# Altium footprint library ics.PcbLib: 20 footprints (part 1 of 2)
Each footprint in its own frame and in the unit in brackets; x right, y up, seen from the top. Pads: shape width x height; smd on the part's side, far side on the other; paste and mask are expansions set on the pad; w line width, h text height; cw(c..) or ccw(c..) is an arc to the next point about the centre after c.
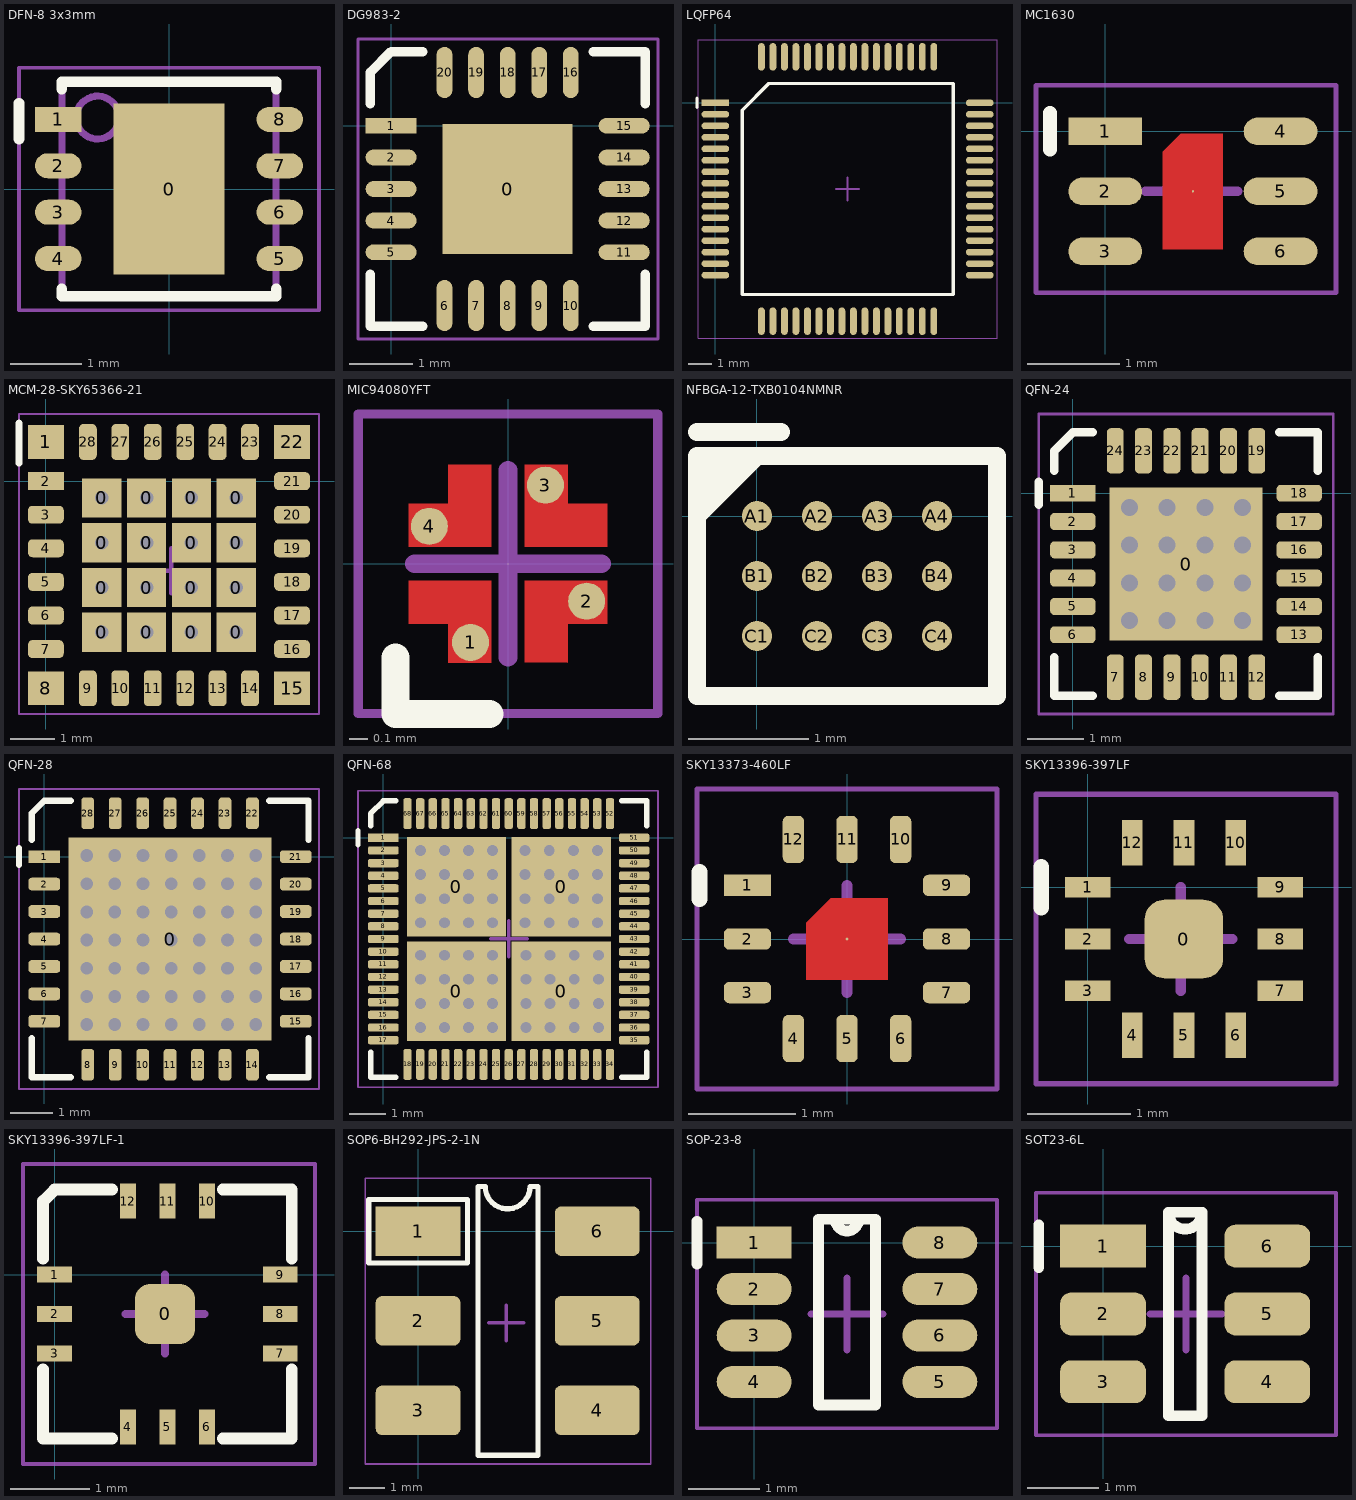
[diagram p0: the footprints below, top view; thin cyan lines are the x and y axes]

## DFN-8 3x3mm [mm] "DFN, 8-Leads, Body 3.00x3.00mm, Pitch 0.65mm, Thermal Pad 1.50x2.0mm, IPC Medium Density"
height 1
pads (9):
  rect 1.55x2.4 smd: 0(0,0)
  rect 0.65x0.35 smd: 1(-1.55,0.975)
  oval 0.65x0.35 smd: 2(-1.55,0.325) 3(-1.55,-0.325) 4(-1.55,-0.975) 5(1.55,-0.975) 6(1.55,-0.325) 7(1.55,0.325) 8(1.55,0.975)
Top Overlay:
  lines w0.15: -2.1,0.7 -2.1,1.2 ; -1.5,-1.4 -1.5,-1.5 1.5,-1.5 1.5,-1.4 ; -1.5,1.4 -1.5,1.5 1.5,1.5 1.5,1.4
Mechanical 13:
  circle w0.1: c-1,1 r0.3
  lines w0.1: -1.5,-1.5 1.5,-1.5 1.5,1.5 -1.5,1.5 -1.5,-1.5
Mechanical 15:
  lines w0.05: -2.1,-1.7 -2.1,1.7 2.1,1.7 2.1,-1.7 -2.1,-1.7
  lines w0.1: -0.5,0 0.5,0 ; 0,-0.5 0,0.5
3D body "Microchip - DFN-8 3x3MM.step": height 1.05, standoff 0, extent -1.5,-1.5 1.5,1.5

## DG983-2 [mm] "Mini-Circuits DG983-2"
pads (21):
  rect 2.06x2.06 smd: 0(1.845,-1)
  rect 0.81x0.25 smd: 1(0,0)
  oval 0.81x0.25 smd: 2(0,-0.5) 3(0,-1) 4(0,-1.5) 5(0,-2) 11(3.69,-2) 12(3.69,-1.5) 13(3.69,-1) 14(3.69,-0.5) 15(3.69,0)
  oval 0.25x0.81 smd: 6(0.845,-2.845) 7(1.345,-2.845) 8(1.845,-2.845) 9(2.345,-2.845) 10(2.845,-2.845) 16(2.845,0.845) 17(2.345,0.845) 18(1.845,0.845) 19(1.345,0.845) 20(0.845,0.845)
Top Overlay:
  lines w0.15: -0.33,-2.35 -0.33,-3.175 0.5,-3.175 ; -0.33,0.35 -0.33,0.845 0,1.175 0.5,1.175 ; 3.2,-3.175 4.02,-3.175 4.02,-2.35 ; 3.2,1.175 4.02,1.175 4.02,0.35
Mechanical 15:
  lines w0.05: -0.525,-3.375 -0.525,1.375 4.225,1.375 4.225,-3.375 -0.525,-3.375
  lines w0.1: 1.35,-1.025 2.35,-1.025 ; 1.85,-1.525 1.85,-0.525
3D body "DG983-2.stp": height 0.85, standoff 0, extent -0.205,-3.05 3.895,1.05

## LQFP64 [mm]
pads (64):
  rect 1.2x0.3 smd: 1(0,0)
  oval 1.2x0.3 smd: 2(0,-0.5) 3(0,-1) 4(0,-1.5) 5(0,-2) 6(0,-2.5) 7(0,-3) 8(0,-3.5) 9(0,-4) 10(0,-4.5) 11(0,-5) 12(0,-5.5) 13(0,-6) 14(0,-6.5) 15(0,-7) 16(0,-7.5) 33(11.5,-7.5) 34(11.5,-7) 35(11.5,-6.5) 36(11.5,-6) 37(11.5,-5.5) 38(11.5,-5) 39(11.5,-4.5) 40(11.5,-4) 41(11.5,-3.5) 42(11.5,-3) 43(11.5,-2.5) 44(11.5,-2) 45(11.5,-1.5) 46(11.5,-1) 47(11.5,-0.5) 48(11.5,0)
  oval 0.3x1.2 smd: 17(2,-9.5) 18(2.5,-9.5) 19(3,-9.5) 20(3.5,-9.5) 21(4,-9.5) 22(4.5,-9.5) 23(5,-9.5) 24(5.5,-9.5) 25(6,-9.5) 26(6.5,-9.5) 27(7,-9.5) 28(7.5,-9.5) 29(8,-9.5) 30(8.5,-9.5) 31(9,-9.5) 32(9.5,-9.5) 49(9.5,2) 50(9,2) 51(8.5,2) 52(8,2) 53(7.5,2) 54(7,2) 55(6.5,2) 56(6,2) 57(5.5,2) 58(5,2) 59(4.5,2) 60(4,2) 61(3.5,2) 62(3,2) 63(2.5,2) 64(2,2)
Top Overlay:
  lines w0.15: -0.8,-0.2 -0.8,0.2 ; 1.16,-8.34 1.16,-0.32 2.32,0.84 10.34,0.84 10.34,-8.34 1.16,-8.34
Mechanical 15:
  lines w0.05: -0.75,-10.25 -0.75,2.75 12.25,2.75 12.25,-10.25 -0.75,-10.25
  lines w0.1: 5.25,-3.75 6.25,-3.75 ; 5.75,-4.25 5.75,-3.25
3D body "LQFP64.step": height 1.56, standoff 0, extent -0.25,-9.75 11.75,2.25

## MC1630 [mm] "Mini-Circuits MC1630"
pads (7):
  round 0.025 smd: 0(0.95,-0.65)
  rect 0.8x0.3 smd: 1(0,0)
  oval 0.8x0.3 smd: 2(0,-0.65) 3(0,-1.3) 4(1.9,0) 5(1.9,-0.65) 6(1.9,-1.3)
Top Layer:
  region: 1.275,-1.275 0.625,-1.275 0.625,-0.22 0.82,-0.025 1.275,-0.025
Top Overlay:
  lines w0.15: -0.6,-0.2 -0.6,0.2
Mechanical 15:
  lines w0.05: -0.75,-1.75 -0.75,0.5 2.5,0.5 2.5,-1.75 -0.75,-1.75
  lines w0.1: 0.436,-0.648 1.436,-0.648 ; 0.936,-1.148 0.936,-0.148
3D body "MC1630.step": height 0.85, standoff 0, extent -0.06,-1.65 1.96,0.35

## MCM-28-SKY65366-21 [mm]
pads (44):
  rect 0.875x0.875 smd: 0(1.25,-3.375) 0(1.25,-2.375) 0(1.25,-1.375) 0(1.25,-0.375) 0(2.25,-3.375) 0(2.25,-2.375) 0(2.25,-1.375) 0(2.25,-0.375) 0(3.25,-3.375) 0(3.25,-2.375) 0(3.25,-1.375) 0(3.25,-0.375) 0(4.25,-3.375) 0(4.25,-2.375) 0(4.25,-1.375) 0(4.25,-0.375)
  rect 0.8x0.75 smd: 1(0,0.875) 8(0,-4.625) 15(5.499,-4.625) 22(5.499,0.875)
  rect 0.8x0.4 smd: 2(0,0)
  rrect50% 0.8x0.4 smd: 3(0,-0.75) 4(0,-1.5) 5(0,-2.25) 6(0,-3) 7(0,-3.75) 16(5.499,-3.75) 17(5.499,-3) 18(5.499,-2.25) 19(5.499,-1.5) 20(5.499,-0.75) 21(5.499,0)
  rrect50% 0.4x0.8 smd: 9(0.937,-4.625) 10(1.662,-4.625) 11(2.387,-4.625) 12(3.112,-4.625) 13(3.837,-4.625) 14(4.562,-4.625) 23(4.562,0.875) 24(3.837,0.875) 25(3.112,0.875) 26(2.387,0.875) 27(1.662,0.875) 28(0.937,0.875)
via 1.25,-0.375 diameter 0.7 hole 0.3
via 2.25,-0.375 diameter 0.7 hole 0.3
via 3.25,-0.375 diameter 0.7 hole 0.3
via 4.25,-0.375 diameter 0.7 hole 0.3
via 1.25,-1.375 diameter 0.7 hole 0.3
via 2.25,-1.375 diameter 0.7 hole 0.3
via 3.25,-1.375 diameter 0.7 hole 0.3
via 4.25,-1.375 diameter 0.7 hole 0.3
via 1.25,-2.375 diameter 0.7 hole 0.3
via 2.25,-2.375 diameter 0.7 hole 0.3
via 3.25,-2.375 diameter 0.7 hole 0.3
via 4.25,-2.375 diameter 0.7 hole 0.3
via 1.25,-3.375 diameter 0.7 hole 0.3
via 2.25,-3.375 diameter 0.7 hole 0.3
via 3.25,-3.375 diameter 0.7 hole 0.3
via 4.25,-3.375 diameter 0.7 hole 0.3
Top Overlay:
  lines w0.15: -0.6,0.4 -0.6,1.3
Top Solder:
  rectangle: -0.4,-5.025 5.9,1.275
Mechanical 15:
  lines w0.05: -0.6,-5.2 6.1,-5.2 6.1,1.5 -0.6,1.5 -0.6,-5.2
  lines w0.1: 2.3,-2 3.3,-2 ; 2.8,-2.5 2.8,-1.5
3D body "SKY65366-21.STEP": height 1.05, standoff 0, extent -0.234,-4.875 5.766,1.125

## MIC94080YFT [mm] "MIC94080YFT"
pads (4):
  round 0.198 smd paste-1000 mask+0: 1(-0.2,-0.42) 2(0.42,-0.2) 3(0.2,0.42) 4(-0.42,0.2)
Top Layer:
  region: -0.53,-0.09 -0.09,-0.09 -0.09,-0.53 -0.32,-0.53 -0.32,-0.32 -0.53,-0.32
  region: 0.53,-0.09 0.09,-0.09 0.09,-0.525 0.32,-0.53 0.32,-0.32 0.53,-0.32
  region: 0.53,0.09 0.09,0.09 0.09,0.53 0.32,0.53 0.32,0.32 0.53,0.32
  region: -0.53,0.09 -0.09,0.09 -0.09,0.53 -0.32,0.53 -0.32,0.32 -0.53,0.32
Top Overlay:
  lines w0.15: -0.601,-0.5 -0.601,-0.802 -0.1,-0.802
Top Paste:
  region: -0.53,-0.09 -0.09,-0.09 -0.09,-0.49 -0.32,-0.49 -0.32,-0.32 -0.53,-0.32
  region: 0.53,-0.09 0.09,-0.09 0.09,-0.49 0.32,-0.49 0.32,-0.32 0.53,-0.32
  region: 0.53,0.09 0.09,0.09 0.09,0.49 0.32,0.49 0.32,0.32 0.53,0.32
  region: -0.53,0.09 -0.09,0.09 -0.09,0.49 -0.32,0.49 -0.32,0.32 -0.53,0.32
Mechanical 15:
  lines w0.05: -0.8,-0.8 -0.8,0.8 0.8,0.8 0.8,-0.8 -0.8,-0.8
  lines w0.1: -0.5,0 0.5,0 ; 0,-0.5 0,0.5
3D body "IC_Microchip_Technology_MIC94080YFT-TR_eec.STEP": height 0.25, standoff 0, extent -0.63,-0.63 0.63,0.63

## NFBGA-12-TXB0104NMNR [mm]
pads (12):
  round 0.25 smd: A1(0,0) A2(0.5,0) A3(1,0) A4(1.5,0) B1(0,-0.5) B2(0.5,-0.5) B3(1,-0.5) B4(1.5,-0.5) C1(0,-1) C2(0.5,-1) C3(1,-1) C4(1.5,-1)
Top Overlay:
  lines w0.15: -0.5,0 0,0.5 ; -0.5,0.2 -0.2,0.5 -0.475,0.5 -0.35,0.375 ; -0.5,0.475 -0.5,0.5 ; -0.5,0.7 0.2,0.7 ; -0.5,0.5 2,0.5 2,-1.5 -0.5,-1.5 -0.5,0.5
3D body "TXB0104NMNR_STEP.STEP": height 0.96, standoff 0, extent -0.5,-1.5 2,0.5

## QFN-24 [mm]
pads (25):
  rect 2.7x2.7 smd: 0(2,-1.25)
  rect 0.8x0.3 smd: 1(0,0)
  rrect50% 0.8x0.3 smd: 2(0,-0.5) 3(0,-1) 4(0,-1.5) 5(0,-2) 6(0,-2.5) 13(4,-2.5) 14(4,-2) 15(4,-1.5) 16(4,-1) 17(4,-0.5) 18(4,0)
  rrect50% 0.3x0.8 smd: 7(0.75,-3.25) 8(1.25,-3.25) 9(1.75,-3.25) 10(2.25,-3.25) 11(2.75,-3.25) 12(3.25,-3.25) 19(3.25,0.75) 20(2.75,0.75) 21(2.25,0.75) 22(1.75,0.75) 23(1.25,0.75) 24(0.75,0.75)
via 2.335,-0.915 diameter 0.65 hole 0.3
via 3,-0.915 diameter 0.65 hole 0.3
via 1,-0.915 diameter 0.65 hole 0.3
via 1.665,-0.915 diameter 0.65 hole 0.3
via 2.335,-1.585 diameter 0.65 hole 0.3
via 3,-1.585 diameter 0.65 hole 0.3
via 1,-1.585 diameter 0.65 hole 0.3
via 1.665,-1.585 diameter 0.65 hole 0.3
via 2.335,-2.25 diameter 0.65 hole 0.3
via 3,-2.25 diameter 0.65 hole 0.3
via 1,-2.25 diameter 0.65 hole 0.3
via 1.665,-2.25 diameter 0.65 hole 0.3
via 2.335,-0.25 diameter 0.65 hole 0.3
via 3,-0.25 diameter 0.65 hole 0.3
via 1,-0.25 diameter 0.65 hole 0.3
via 1.665,-0.25 diameter 0.65 hole 0.3
Top Overlay:
  lines w0.15: -0.6,-0.2 -0.6,0.2 ; -0.325,-2.9 -0.325,-3.575 0.35,-3.575 ; -0.325,0.4 -0.325,0.75 0,1.075 0.35,1.075 ; 3.65,-3.575 4.325,-3.575 4.325,-2.9 ; 3.65,1.075 4.325,1.075 4.325,0.4
Mechanical 15:
  lines w0.05: -0.6,-3.9 -0.6,1.4 4.6,1.4 4.6,-3.9 -0.6,-3.9
  lines w0.1: 1.5,-1.3 2.5,-1.3 ; 2,-1.8 2,-0.8
3D body "QFN_0IMLTRT_SEM.step": height 0.99, standoff 0, extent -0.045,-3.295 4.045,0.795

## QFN-28 [mm]
pads (29):
  rect 4.8x4.8 smd: 0(2.975,-1.95)
  rect 0.75x0.3 smd: 1(0,0)
  rrect50% 0.75x0.3 smd: 2(0,-0.65) 3(0,-1.3) 4(0,-1.95) 5(0,-2.6) 6(0,-3.25) 7(0,-3.9) 15(5.95,-3.9) 16(5.95,-3.25) 17(5.95,-2.6) 18(5.95,-1.95) 19(5.95,-1.3) 20(5.95,-0.65) 21(5.95,0)
  rrect50% 0.3x0.75 smd: 8(1.025,-4.925) 9(1.675,-4.925) 10(2.325,-4.925) 11(2.975,-4.925) 12(3.625,-4.925) 13(4.275,-4.925) 14(4.925,-4.925) 22(4.925,1.025) 23(4.275,1.025) 24(3.625,1.025) 25(2.975,1.025) 26(2.325,1.025) 27(1.675,1.025) 28(1.025,1.025)
via 2.335,-0.64 diameter 0.65 hole 0.3
via 1,-0.64 diameter 0.65 hole 0.3
via 1.665,-0.64 diameter 0.65 hole 0.3
via 2.335,-1.31 diameter 0.65 hole 0.3
via 3,-1.31 diameter 0.65 hole 0.3
via 1,-1.31 diameter 0.65 hole 0.3
via 1.665,-1.31 diameter 0.65 hole 0.3
via 2.335,-1.975 diameter 0.65 hole 0.3
via 3,-1.975 diameter 0.65 hole 0.3
via 1,-1.975 diameter 0.65 hole 0.3
via 1.665,-1.975 diameter 0.65 hole 0.3
via 2.335,0.025 diameter 0.65 hole 0.3
via 1,0.025 diameter 0.65 hole 0.3
via 1.665,0.025 diameter 0.65 hole 0.3
via 4.335,-0.64 diameter 0.65 hole 0.3
via 5,-0.64 diameter 0.65 hole 0.3
via 3,-0.64 diameter 0.65 hole 0.3
via 3.665,-0.64 diameter 0.65 hole 0.3
via 4.335,-1.31 diameter 0.65 hole 0.3
via 5,-1.31 diameter 0.65 hole 0.3
via 3.665,-1.31 diameter 0.65 hole 0.3
via 4.335,-1.975 diameter 0.65 hole 0.3
via 5,-1.975 diameter 0.65 hole 0.3
via 3.665,-1.975 diameter 0.65 hole 0.3
via 4.335,0.025 diameter 0.65 hole 0.3
via 5,0.025 diameter 0.65 hole 0.3
via 3,0.025 diameter 0.65 hole 0.3
via 3.665,0.025 diameter 0.65 hole 0.3
via 2.335,-2.64 diameter 0.65 hole 0.3
via 3,-2.64 diameter 0.65 hole 0.3
via 1,-2.64 diameter 0.65 hole 0.3
via 1.665,-2.64 diameter 0.65 hole 0.3
via 2.335,-3.31 diameter 0.65 hole 0.3
via 3,-3.31 diameter 0.65 hole 0.3
via 1,-3.31 diameter 0.65 hole 0.3
via 1.665,-3.31 diameter 0.65 hole 0.3
via 2.335,-3.975 diameter 0.65 hole 0.3
via 3,-3.975 diameter 0.65 hole 0.3
via 1,-3.975 diameter 0.65 hole 0.3
via 1.665,-3.975 diameter 0.65 hole 0.3
via 4.335,-2.64 diameter 0.65 hole 0.3
via 5,-2.64 diameter 0.65 hole 0.3
via 3.665,-2.64 diameter 0.65 hole 0.3
via 4.335,-3.31 diameter 0.65 hole 0.3
via 5,-3.31 diameter 0.65 hole 0.3
via 3.665,-3.31 diameter 0.65 hole 0.3
via 4.335,-3.975 diameter 0.65 hole 0.3
via 5,-3.975 diameter 0.65 hole 0.3
via 3.665,-3.975 diameter 0.65 hole 0.3
Top Overlay:
  lines w0.15: -0.6,-0.2 -0.6,0.2 ; -0.3,-4.3 -0.3,-5.225 0.625,-5.225 ; -0.3,0.4 -0.3,1.025 0,1.325 0.625,1.325 ; 5.325,-5.225 6.25,-5.225 6.25,-4.3 ; 5.325,1.325 6.25,1.325 6.25,0.4
Mechanical 15:
  lines w0.05: -0.6,-5.5 6.5,-5.5 6.5,1.6 -0.6,1.6 -0.6,-5.5
  lines w0.1: 2.5,-2 3.5,-2 ; 3,-2.5 3,-1.5
3D body "QFN28_0_65.step": height 0.88, standoff -0.02, extent 0,-4.975 6,1.025

## QFN-68 [mm]
pads (72):
  rect 2.75x2.75 smd: 0(2.025,-4.25) 0(2.025,-1.35) 0(4.925,-4.25) 0(4.925,-1.35)
  rect 0.85x0.23 smd: 1(0,0)
  rrect50% 0.85x0.23 smd: 2(0,-0.35) 3(0,-0.7) 4(0,-1.05) 5(0,-1.4) 6(0,-1.75) 7(0,-2.1) 8(0,-2.45) 9(0,-2.8) 10(0,-3.15) 11(0,-3.5) 12(0,-3.85) 13(0,-4.2) 14(0,-4.55) 15(0,-4.9) 16(0,-5.25) 17(0,-5.6) 35(6.94,-5.6) 36(6.94,-5.25) 37(6.94,-4.9) 38(6.94,-4.55) 39(6.94,-4.2) 40(6.94,-3.85) 41(6.94,-3.5) 42(6.94,-3.15) 43(6.94,-2.8) 44(6.94,-2.45) 45(6.94,-2.1) 46(6.94,-1.75) 47(6.94,-1.4) 48(6.94,-1.05) 49(6.94,-0.7) 50(6.94,-0.35) 51(6.94,0)
  rrect50% 0.23x0.85 smd: 18(0.67,-6.27) 19(1.02,-6.27) 20(1.37,-6.27) 21(1.72,-6.27) 22(2.07,-6.27) 23(2.42,-6.27) 24(2.77,-6.27) 25(3.12,-6.27) 26(3.47,-6.27) 27(3.82,-6.27) 28(4.17,-6.27) 29(4.52,-6.27) 30(4.87,-6.27) 31(5.22,-6.27) 32(5.57,-6.27) 33(5.92,-6.27) 34(6.27,-6.27) 52(6.27,0.67) 53(5.92,0.67) 54(5.57,0.67) 55(5.22,0.67) 56(4.87,0.67) 57(4.52,0.67) 58(4.17,0.67) 59(3.82,0.67) 60(3.47,0.67) 61(3.12,0.67) 62(2.77,0.67) 63(2.42,0.67) 64(2.07,0.67) 65(1.72,0.67) 66(1.37,0.67) 67(1.02,0.67) 68(0.67,0.67)
via 1.69,-0.35 diameter 0.65 hole 0.3
via 1.025,-0.35 diameter 0.65 hole 0.3
via 3.025,-0.35 diameter 0.65 hole 0.3
via 2.36,-0.35 diameter 0.65 hole 0.3
via 1.69,-2.35 diameter 0.65 hole 0.3
via 1.025,-2.35 diameter 0.65 hole 0.3
via 3.025,-2.35 diameter 0.65 hole 0.3
via 2.36,-2.35 diameter 0.65 hole 0.3
via 1.69,-1.685 diameter 0.65 hole 0.3
via 1.025,-1.685 diameter 0.65 hole 0.3
via 3.025,-1.685 diameter 0.65 hole 0.3
via 2.36,-1.685 diameter 0.65 hole 0.3
via 1.69,-1.015 diameter 0.65 hole 0.3
via 1.025,-1.015 diameter 0.65 hole 0.3
via 3.025,-1.015 diameter 0.65 hole 0.3
via 2.36,-1.015 diameter 0.65 hole 0.3
via 4.59,-0.35 diameter 0.65 hole 0.3
via 3.925,-0.35 diameter 0.65 hole 0.3
via 5.925,-0.35 diameter 0.65 hole 0.3
via 5.26,-0.35 diameter 0.65 hole 0.3
via 4.59,-2.35 diameter 0.65 hole 0.3
via 3.925,-2.35 diameter 0.65 hole 0.3
via 5.925,-2.35 diameter 0.65 hole 0.3
via 5.26,-2.35 diameter 0.65 hole 0.3
via 4.59,-1.685 diameter 0.65 hole 0.3
via 3.925,-1.685 diameter 0.65 hole 0.3
via 5.925,-1.685 diameter 0.65 hole 0.3
via 5.26,-1.685 diameter 0.65 hole 0.3
via 4.59,-1.015 diameter 0.65 hole 0.3
via 3.925,-1.015 diameter 0.65 hole 0.3
via 5.925,-1.015 diameter 0.65 hole 0.3
via 5.26,-1.015 diameter 0.65 hole 0.3
via 1.69,-3.25 diameter 0.65 hole 0.3
via 1.025,-3.25 diameter 0.65 hole 0.3
via 3.025,-3.25 diameter 0.65 hole 0.3
via 2.36,-3.25 diameter 0.65 hole 0.3
via 1.69,-5.25 diameter 0.65 hole 0.3
via 1.025,-5.25 diameter 0.65 hole 0.3
via 3.025,-5.25 diameter 0.65 hole 0.3
via 2.36,-5.25 diameter 0.65 hole 0.3
via 1.69,-4.585 diameter 0.65 hole 0.3
via 1.025,-4.585 diameter 0.65 hole 0.3
via 3.025,-4.585 diameter 0.65 hole 0.3
via 2.36,-4.585 diameter 0.65 hole 0.3
via 1.69,-3.915 diameter 0.65 hole 0.3
via 1.025,-3.915 diameter 0.65 hole 0.3
via 3.025,-3.915 diameter 0.65 hole 0.3
via 2.36,-3.915 diameter 0.65 hole 0.3
via 4.615,-3.25 diameter 0.65 hole 0.3
via 3.95,-3.25 diameter 0.65 hole 0.3
via 5.95,-3.25 diameter 0.65 hole 0.3
via 5.285,-3.25 diameter 0.65 hole 0.3
via 4.615,-5.25 diameter 0.65 hole 0.3
via 3.95,-5.25 diameter 0.65 hole 0.3
via 5.95,-5.25 diameter 0.65 hole 0.3
via 5.285,-5.25 diameter 0.65 hole 0.3
via 4.615,-4.585 diameter 0.65 hole 0.3
via 3.95,-4.585 diameter 0.65 hole 0.3
via 5.95,-4.585 diameter 0.65 hole 0.3
via 5.285,-4.585 diameter 0.65 hole 0.3
via 4.615,-3.915 diameter 0.65 hole 0.3
via 3.95,-3.915 diameter 0.65 hole 0.3
via 5.95,-3.915 diameter 0.65 hole 0.3
via 5.285,-3.915 diameter 0.65 hole 0.3
Top Overlay:
  lines w0.15: -0.7,-0.2 -0.7,0.2 ; -0.35,-5.93 -0.35,-6.62 0.34,-6.62 ; -0.35,0.33 -0.35,0.67 0,1.02 0.34,1.02 ; 6.6,-6.62 7.29,-6.62 7.29,-5.93 ; 6.6,1.02 7.29,1.02 7.29,0.33
Top Solder:
  region: 6.47,-6.288 6.47,0.7 0.5,0.7 0.5,-6.288
  rectangle: 0,-5.8 7,0.2
Mechanical 15:
  lines w0.05: -0.7,-6.9 7.6,-6.9 7.6,1.3 -0.7,1.3 -0.7,-6.9
  lines w0.1: 2.976,-2.791 3.976,-2.791 ; 3.476,-3.291 3.476,-2.291
3D body "QFN68_7X7_SEM.step": height 0.81, standoff 0, extent -0.03,-6.305 6.98,0.705

## SKY13373-460LF [mm] "SKY13373-460LF"
pads (13):
  round 0.025 smd paste+0: 0(0,0)
  rect 0.44x0.2 smd paste+0: 1(-0.93,0.5)
  rrect50% 0.44x0.2 smd paste+0: 2(-0.93,0) 3(-0.93,-0.5) 7(0.93,-0.5) 8(0.93,0) 9(0.93,0.5)
  rrect50% 0.2x0.44 smd paste+0: 4(-0.5,-0.93) 5(0,-0.93) 6(0.5,-0.93) 10(0.5,0.93) 11(0,0.93) 12(-0.5,0.93)
Top Layer:
  region: 0.38,-0.38 -0.38,-0.38 -0.38,0.152 -0.152,0.38 0.38,0.38
Top Overlay:
  lines w0.15: -1.375,0.375 -1.375,0.625
Mechanical 15:
  lines w0.05: -1.4,-1.4 1.4,-1.4 1.4,1.4 -1.4,1.4 -1.4,-1.4
  lines w0.1: -0.5,0 0.5,0 ; 0,-0.5 0,0.5
3D body "SKY13373-460LF.STEP": height 0.55, standoff 0, extent -1,-1 1,1

## SKY13396-397LF [mm]
pads (13):
  rrect50% 0.76x0.76 smd: 0(0.93,-0.5)
  rect 0.44x0.2 smd: 1(0,0) 2(0,-0.5) 3(0,-1) 7(1.86,-1) 8(1.86,-0.5) 9(1.86,0)
  rect 0.2x0.44 smd: 4(0.43,-1.43) 5(0.93,-1.43) 6(1.43,-1.43) 10(1.43,0.43) 11(0.93,0.43) 12(0.43,0.43)
Top Overlay:
  lines w0.15: -0.45,-0.2 -0.45,0.2
Mechanical 15:
  lines w0.05: -0.5,-1.9 2.4,-1.9 2.4,0.9 -0.5,0.9 -0.5,-1.9
  lines w0.1: 0.4,-0.5 1.4,-0.5 ; 0.9,-1 0.9,0
3D body "QFN_330-397LF_SKY.step": height 0.61, standoff 0, extent -0.078,-1.503 1.928,0.503

## SKY13396-397LF-1 [mm]
pads (13):
  rrect50% 0.76x0.76 smd: 0(1.4,-0.5)
  rect 0.44x0.2 smd: 1(0,0) 2(0,-0.5) 3(0,-1) 7(2.86,-1) 8(2.86,-0.5) 9(2.86,0)
  rect 0.2x0.44 smd: 4(0.93,-1.93) 5(1.43,-1.93) 6(1.93,-1.93) 10(1.93,0.93) 11(1.43,0.93) 12(0.93,0.93)
Top Overlay:
  lines w0.15: -0.145,-1.2 -0.145,-2.075 0.73,-2.075 ; -0.145,0.2 -0.145,0.93 0,1.075 0.73,1.075 ; 2.13,-2.075 3.005,-2.075 3.005,-1.2 ; 2.13,1.075 3.005,1.075 3.005,0.2
Mechanical 15:
  lines w0.05: -0.4,-2.4 -0.4,1.4 3.3,1.4 3.3,-2.4 -0.4,-2.4
  lines w0.1: 0.9,-0.5 1.9,-0.5 ; 1.4,-1 1.4,0

## SOP6-BH292-JPS-2-1N [mm]
pads (6):
  rect 2.4x1.4 smd: 1(0,0)
  rrect25% 2.4x1.4 smd: 2(0,-2.54) 3(0,-5.08) 4(5.08,-5.08) 5(5.08,-2.54) 6(5.08,0)
Top Overlay:
  lines w0.15: -1.4,-0.9 1.4,-0.9 1.4,0.9 -1.4,0.9 -1.4,-0.9 ; 1.7,-6.35 3.4,-6.35 3.4,1.27 3.175,1.27 cw(c2.54,1.27) 1.905,1.27 1.7,1.27 1.7,-6.35
Mechanical 15:
  lines w0.05: -1.5,-6.6 6.6,-6.6 6.6,1.5 -1.5,1.5 -1.5,-6.6
  lines w0.1: 2,-2.6 3,-2.6 ; 2.5,-3.1 2.5,-2.1
3D body "JPS-2-1N+_2.STEP": height 5.82, standoff 0, extent -1.12,-6.485 6.17,1.385

## SOP-23-8 [mm]
pads (8):
  rect 1.05x0.45 smd: 1(0,0)
  oval 1.05x0.45 smd: 2(0,-0.65) 3(0,-1.3) 4(0,-1.95) 5(2.6,-1.95) 6(2.6,-1.3) 7(2.6,-0.65) 8(2.6,0)
Top Overlay:
  lines w0.15: -0.8,-0.3 -0.8,0.3 ; 0.9,-2.275 1.7,-2.275 1.7,0.325 1.138,0.325 ccw(c1.3,0.325) 1.462,0.325 0.9,0.325 0.9,-2.275
Mechanical 15:
  lines w0.05: -0.8,-2.6 3.4,-2.6 3.4,0.6 -0.8,0.6 -0.8,-2.6
  lines w0.1: 0.8,-1 1.8,-1 ; 1.3,-1.5 1.3,-0.5
3D body "INA232BIDDFR.stp": height 1.1, standoff 0, extent -0.1,-2.45 2.7,0.45

## SOT23-6L [mm]
pads (6):
  rect 1.2x0.6 smd: 1(0,0)
  rrect50% 1.2x0.6 smd: 2(0,-0.95) 3(0,-1.9) 4(2.3,-1.9) 5(2.3,-0.95) 6(2.3,0)
Top Overlay:
  lines w0.15: -0.9,-0.3 -0.9,0.3 ; 0.913,0.475 ccw(c1.15,0.475) 1.388,0.475 0.915,0.475 0.915,-2.375 1.385,-2.375 1.385,0.475 0.913,0.475
Mechanical 15:
  lines w0.05: -0.939,-2.651 -0.939,0.749 3.261,0.749 3.261,-2.651 -0.939,-2.651
  lines w0.1: 0.661,-0.951 1.661,-0.951 ; 1.161,-1.451 1.161,-0.451
3D body "USBLC6-2SC6.stp": height 1.45, standoff 0, extent -0.25,-2.412 2.55,0.512